# Altium schematic symbol library TF45-30S-0.5SH(800).SchLib: 2 symbols
Pins are listed as number, name and electrical type; pins without a type are passive.

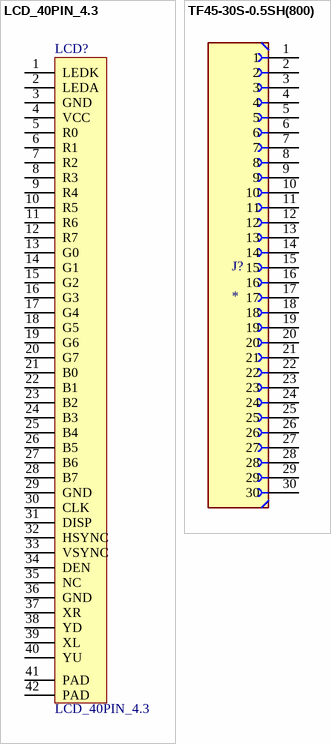
[diagram p0: symbols LCD_40PIN_4.3 to TF45-30S-0.5SH(800)]

## LCD_40PIN_4.3
designator LCD?
footprint FPC-SMD_P0.50-40P_FGS-XJ-H2.0
pins: 1 LEDK, 2 LEDA, 3 GND, 4 VCC, 5 R0, 6 R1, 7 R2, 8 R3, 9 R4, 10 R5, 11 R6, 12 R7, 13 G0, 14 G1, 15 G2, 16 G3, 17 G4, 18 G5, 19 G6, 20 G7, 21 B0, 22 B1, 23 B2, 24 B3, 25 B4, 26 B5, 27 B6, 28 B7, 29 GND, 30 CLK, 31 DISP, 32 HSYNC, 33 VSYNC, 34 DEN, 35 NC, 36 GND, 37 XR, 38 YD, 39 XL, 40 YU, 41 PAD, 42 PAD

## TF45-30S-0.5SH(800)
designator J?
MF: {'manufacturer': u'Hirose Connector'}; MP: TF45-30S-0.5SH(800); Package: None; Price: None; Value: *; Availability: Unavailable
footprint HRS_TF45-30S-0.5SH(800)
pins: 1, 2, 3, 4, 5, 6, 7, 8, 9, 10, 11, 12, 13, 14, 15, 16, 17, 18, 19, 20, 21, 22, 23, 24, 25, 26, 27, 28, 29, 30